# EAGLE library part GHIDIY-MODULES_ARDUINO-NANO-3.0#ISP-OXYGEN*? (library Oxygen Analyzer)
Arduino Nano 3.0 (and compatible devices) with ISP pads More details available here: https://www.arduino.cc/en/Main/ArduinoBoardNano Click here to find device on ebay.com <http://www.ebay.com/sch/arduino+nano>
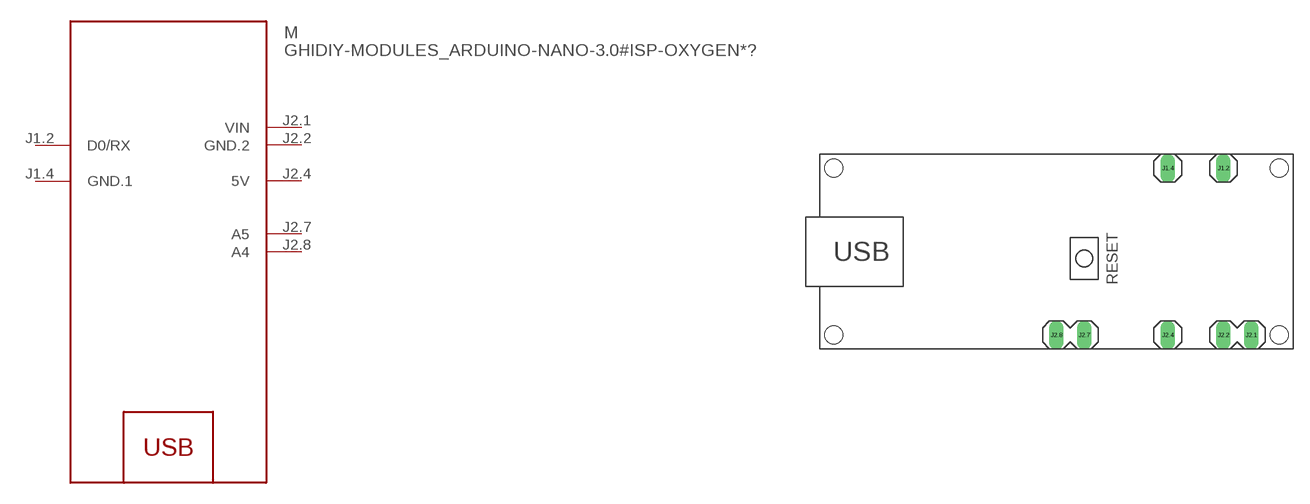
[diagram p0: symbol with the pads of GHIDIY-MODULES_ARDUINO-NANO-3.0#ISP-OXYGEN; footprint GHIDIY-MODULES_ARDUINO-NANO-3.0#ISP-OXYGEN]

Designator prefix M

## GHIDIY-MODULES_ARDUINO-NANO-3.0#ISP-OXYGENOXYGEN-ANALYZER-NANO  [GHIDIY-MODULES_ARDUINO-NANO-3.0#ISP-OXYGEN]
J1.2  D0/RX
J1.4  GND.1  pwr
J2.1  VIN  pwr
J2.2  GND.2  pwr
J2.4  5V  pwr
J2.7  A5
J2.8  A4

## Footprint GHIDIY-MODULES_ARDUINO-NANO-3.0#ISP-OXYGEN (pad centres in mm)
Arduino Nano 3.0 Footprint with ISP pads
drill 0.8 pad 1.016 long: J1.2 15.24,7.62; J1.4 10.16,7.62; J2.1 17.78,-7.62; J2.2 15.24,-7.62; J2.4 10.16,-7.62; J2.7 2.54,-7.62; J2.8 0,-7.62
hole 1.651 at -20.32,7.62
hole 1.651 at -20.32,-7.62
hole 1.651 at 20.32,-7.62
hole 1.651 at 20.32,7.62